# Altium footprint library Simon Says.PcbLib: 11 footprints
Each footprint in its own frame and in the unit in brackets; x right, y up, seen from the top. Pads: shape width x height; smd on the part's side, far side on the other; paste and mask are expansions set on the pad; w line width, h text height; cw(c..) or ccw(c..) is an arc to the next point about the centre after c.
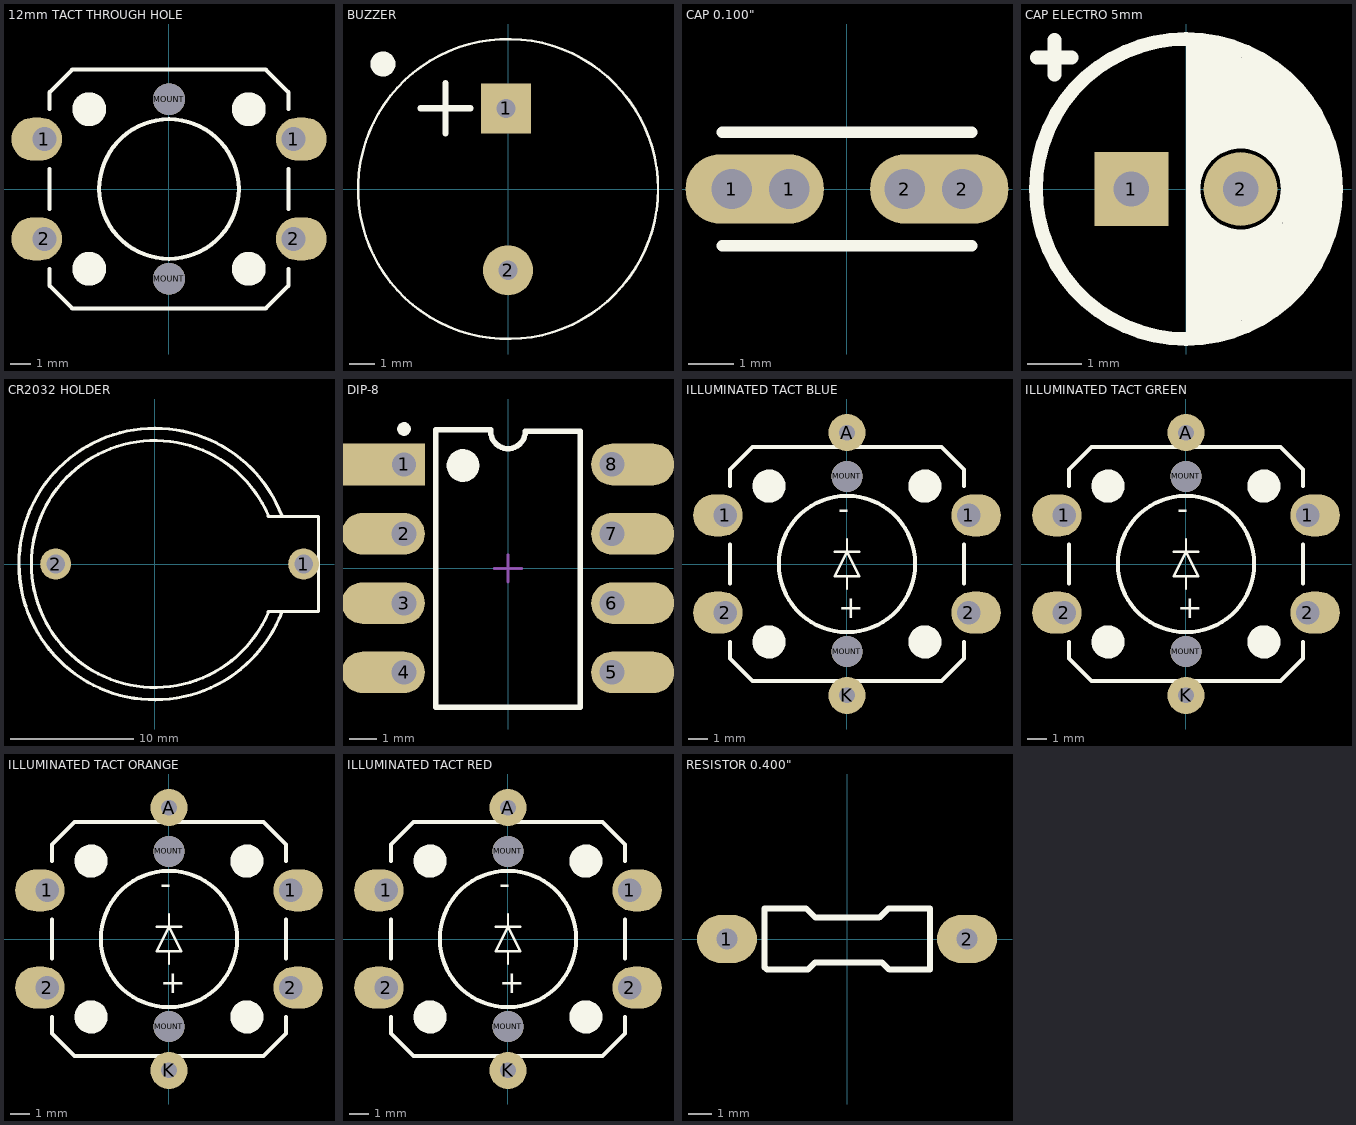
[diagram p0: the footprints below, top view; thin cyan lines are the x and y axes]

## 12mm TACT THROUGH HOLE [mil] "12mm TACT THROUGH HOLE"
pads (6):
  oval 100x85 hole 47.24 copper offset -15,0: 1(-246.06,98.43) 2(-246.06,-98.43)
  oval 100x85 hole 47.24 copper offset 15,0: 1(246.06,98.43) 2(246.06,-98.43)
  round 62.99 hole 62.99: MOUNT(0,-177.17) MOUNT(0,177.17)
Top Overlay:
  circle w35.43: c157.48,-157.48 r15.75
  circle w35.43: c157.48,157.48 r15.75
  circle w8: c0,0 r137.8
  circle w35.43: c-157.48,157.48 r15.75
  circle w35.43: c-157.48,-157.48 r15.75
  lines w8: -236.22,-157.48 -236.22,-190.94 -190.94,-236.22 190.94,-236.22 236.22,-190.94 236.22,-157.48 ; -236.22,-39.37 -236.22,39.37 ; -236.22,157.48 -236.22,190.94 -190.94,236.22 190.94,236.22 236.22,190.94 236.22,157.48 ; 236.22,-39.37 236.22,39.37
3D body "User Library-tact switch 12x12x8mm.step": height 334.65, standoff -137.8, extent -273.02,-236.21 273.03,236.23

## BUZZER [mm]
pads (2):
  rect 2x2 hole 0.762: 1(-0.079,3.223)
  round 2 hole 0.762: 2(0,-3.25)
Top Overlay:
  circle w0.5: c-5,5 r0.25
  circle w0.1: c0,0 r6
  lines w0.254: -3.5,3.223 -1.5,3.223 ; -2.5,2.223 -2.5,4.223
3D body "buzzer.stp": height 8.51, standoff -5.49, extent -6,-6 6,6

## CAP 0.100" [mil]
pads (4):
  round 60 hole 35: 1(-99.99,0) 2(100.01,0)
  oval 120x60 hole 35 copper offset -30,0: 1(-49.99,0)
  oval 120x60 hole 35 copper offset 30,0: 2(50.01,0)
Top Overlay:
  lines w10: -108.28,-49.21 108.28,-49.21 ; -108.28,49.22 108.28,49.22
3D body "CAP_DISC_4x3_YL.stp": height 175.83, standoff -118.11, extent -107.27,-59.06 107.27,59.06

## CAP ELECTRO 5mm [mm]
pads (2):
  rect 1.35x1.35 hole 0.65: 1(-1,0)
  round 1.35 hole 0.65: 2(1,0)
Top Overlay:
  circle w0.254: c0,0 r2.75
  circle w0.254: c1,0 r0.866
  rectangle: 0.127,0.889 1.016,2.667
  rectangle: 0.127,0.635 0.381,1.016
  rectangle: 0.381,0.762 0.635,1.016
  rectangle: 1.905,-0.254 2.667,0.635
  rectangle: 1.778,0.254 2.54,1.143
  rectangle: 0.762,0.889 1.397,2.413
  rectangle: 1.27,0.762 1.651,2.286
  rectangle: 1.524,0.635 1.905,2.032
  rectangle: 1.651,0.508 1.778,0.762
  rectangle: 1.651,1.016 2.286,1.651
  rectangle: 1.651,1.524 2.032,1.905
  rectangle: 2.286,1.016 2.413,1.397
  rectangle: 1.651,-1.651 2.286,-1.016
  rectangle: 1.524,-2.032 1.905,-0.635
  rectangle: 1.27,-2.286 1.651,-0.762
  rectangle: 0.762,-2.413 1.397,-0.889
  rectangle: 1.778,-1.143 2.54,-0.254
  rectangle: 0.381,-1.016 0.635,-0.762
  rectangle: 0.127,-1.016 0.381,-0.635
  rectangle: 0.127,-2.667 1.016,-0.889
  rectangle: 1.651,-1.905 2.032,-1.651
  rectangle: 2.032,-1.27 2.413,-1.016
  rectangle: 2.54,-0.762 2.667,-0.254
  lines w0.254: -2.73,2.413 -2.095,2.413 ; -2.413,2.095 -2.413,2.73 ; 0.127,-2.667 0.127,2.667
3D body "CAP_RAD_D5x11_POL_BK.stp": height 12.5, standoff -2.5, extent -2.75,-2.75 2.75,2.75

## CR2032 HOLDER [mm]
pads (2):
  round 2.5 hole 1.5: 1(12.05,0) 2(-8.035,0)
Top Overlay:
  lines w0.254: 9.191,-3.939 cw(c0,0) 9.191,3.939 ; 9.191,-3.85 13.25,-3.85 13.25,3.85 9.191,3.85 ; 10.286,3.898 ccw(c0,0) 10.3,-3.862
3D body "CR2032.STEP": height 8.5, standoff -4.3, extent -11.15,-11.15 13.15,11.15

## DIP-8 [mil] "DIP, 14-Pin, Row Spacing 7.62 mm, Pitch 2.54 mm"
height 200
pads (8):
  rect 120x60 hole 35 copper offset -30,0: 1(-150,150)
  rrect100% 120x60 hole 35.43 copper offset -30,0: 2(-150,50) 3(-150,-50) 4(-150,-150)
  rrect100% 120x60 hole 35.43 copper offset 30,0: 5(150,-150) 6(150,-50) 7(150,50) 8(150,150)
Top Overlay:
  circle w23.62: c-64.96,148.43 r11.81
  circle w9.84: c-150,201.18 r4.92
  lines w7.87: -25,197.8 ccw(c0,197.8) 25,197.8 104.33,197.8 ; -25,200 -104.33,200 -104.33,-200 104.33,-200 104.33,195
Mechanical 15:
  lines w3.94: -19.68,0 19.68,0 ; 0,-19.68 0,19.68
3D body "DIP8.STEP": height 151.57, standoff -78.74, extent -154.93,-181.1 154.91,181.11

## ILLUMINATED TACT BLUE [mil]
pads (8):
  oval 100x85 hole 47.24 copper offset -15,0: 1(-246.06,98.43) 2(-246.06,-98.43)
  oval 100x85 hole 47.24 copper offset 15,0: 1(246.06,98.43) 2(246.06,-98.43)
  round 75 hole 31.5: A(0,265.75) K(0,-265.75)
  round 62.99 hole 62.99: MOUNT(0,-177.17) MOUNT(0,177.17)
Top Overlay:
  circle w35.43: c-157.48,-157.48 r15.75
  circle w35.43: c-157.48,157.48 r15.75
  circle w8: c0,0 r137.8
  circle w35.43: c157.48,157.48 r15.75
  circle w35.43: c157.48,-157.48 r15.75
  lines w5: -25,25 0,25 ; 0,-50 0,-25 ; 0,50 0,25 ; 25,25 0,25 ; 0,-25 25,-25 0,25 ; 0,-25 -25,-25 0,25
  lines w8: -236.22,-157.48 -236.22,-190.94 -190.94,-236.22 190.94,-236.22 236.22,-190.94 236.22,-157.48 ; -236.22,-39.37 -236.22,39.37 ; -236.22,157.48 -236.22,190.94 -190.94,236.22 190.94,236.22 236.22,190.94 236.22,157.48 ; 236.22,-39.37 236.22,39.37
  text "-" at -17.5,75 h77.5
  text "+" at -17.5,-125 h77.5
3D body "Tactal Switch - THRU(12mmx12mm - Illuminated - Blue.stp": height 289.73, standoff -120, extent -264.11,-298.5 264.1,298.5

## ILLUMINATED TACT GREEN [mil]
pads (8):
  oval 100x85 hole 47.24 copper offset -15,0: 1(-246.06,98.43) 2(-246.06,-98.43)
  oval 100x85 hole 47.24 copper offset 15,0: 1(246.06,98.43) 2(246.06,-98.43)
  round 75 hole 31.5: A(0,265.75) K(0,-265.75)
  round 62.99 hole 62.99: MOUNT(0,-177.17) MOUNT(0,177.17)
Top Overlay:
  circle w35.43: c157.48,-157.48 r15.75
  circle w35.43: c157.48,157.48 r15.75
  circle w8: c0,0 r137.8
  circle w35.43: c-157.48,157.48 r15.75
  circle w35.43: c-157.48,-157.48 r15.75
  lines w5: -25,25 0,25 ; 0,-50 0,-25 ; 0,50 0,25 ; 25,25 0,25 ; 0,-25 -25,-25 0,25 ; 0,-25 25,-25 0,25
  lines w8: -236.22,-157.48 -236.22,-190.94 -190.94,-236.22 190.94,-236.22 236.22,-190.94 236.22,-157.48 ; -236.22,-39.37 -236.22,39.37 ; -236.22,157.48 -236.22,190.94 -190.94,236.22 190.94,236.22 236.22,190.94 236.22,157.48 ; 236.22,-39.37 236.22,39.37
  text "+" at -17.5,-125 h77.5
  text "-" at -17.5,75 h77.5
3D body "Tactal Switch - THRU(12mmx12mm - Illuminated - Green.stp": height 289.73, standoff -120, extent -264.1,-298.5 264.11,298.5

## ILLUMINATED TACT ORANGE [mil]
pads (8):
  oval 100x85 hole 47.24 copper offset -15,0: 1(-246.06,98.43) 2(-246.06,-98.43)
  oval 100x85 hole 47.24 copper offset 15,0: 1(246.06,98.43) 2(246.06,-98.43)
  round 75 hole 31.5: A(0,265.75) K(0,-265.75)
  round 62.99 hole 62.99: MOUNT(0,-177.17) MOUNT(0,177.17)
Top Overlay:
  circle w35.43: c-157.48,-157.48 r15.75
  circle w35.43: c-157.48,157.48 r15.75
  circle w8: c0,0 r137.8
  circle w35.43: c157.48,157.48 r15.75
  circle w35.43: c157.48,-157.48 r15.75
  lines w5: -25,25 0,25 ; 0,-50 0,-25 ; 0,50 0,25 ; 25,25 0,25 ; 0,-25 25,-25 0,25 ; 0,-25 -25,-25 0,25
  lines w8: -236.22,-157.48 -236.22,-190.94 -190.94,-236.22 190.94,-236.22 236.22,-190.94 236.22,-157.48 ; -236.22,-39.37 -236.22,39.37 ; -236.22,157.48 -236.22,190.94 -190.94,236.22 190.94,236.22 236.22,190.94 236.22,157.48 ; 236.22,-39.37 236.22,39.37
  text "-" at -17.5,75 h77.5
  text "+" at -17.5,-125 h77.5
3D body "Tactal Switch - THRU(12mmx12mm - Illuminated - Orange.stp": height 289.73, standoff -120, extent -264.11,-298.5 264.1,298.5

## ILLUMINATED TACT RED [mil]
pads (8):
  oval 100x85 hole 47.24 copper offset -15,0: 1(-246.06,98.43) 2(-246.06,-98.43)
  oval 100x85 hole 47.24 copper offset 15,0: 1(246.06,98.43) 2(246.06,-98.43)
  round 75 hole 31.5: A(0,265.75) K(0,-265.75)
  round 62.99 hole 62.99: MOUNT(0,-177.17) MOUNT(0,177.17)
Top Overlay:
  circle w35.43: c157.48,-157.48 r15.75
  circle w35.43: c157.48,157.48 r15.75
  circle w8: c0,0 r137.8
  circle w35.43: c-157.48,157.48 r15.75
  circle w35.43: c-157.48,-157.48 r15.75
  lines w5: -25,25 0,25 ; 0,-50 0,-25 ; 0,50 0,25 ; 25,25 0,25 ; 0,-25 -25,-25 0,25 ; 0,-25 25,-25 0,25
  lines w8: -236.22,-157.48 -236.22,-190.94 -190.94,-236.22 190.94,-236.22 236.22,-190.94 236.22,-157.48 ; -236.22,-39.37 -236.22,39.37 ; -236.22,157.48 -236.22,190.94 -190.94,236.22 190.94,236.22 236.22,190.94 236.22,157.48 ; 236.22,-39.37 236.22,39.37
  text "+" at -17.5,-125 h77.5
  text "-" at -17.5,75 h77.5
3D body "Tactal Switch - THRU(12mmx12mm - Illuminated - Red.stp": height 289.73, standoff -120, extent -264.11,-298.5 264.1,298.5

## RESISTOR 0.400" [mil]
pads (2):
  oval 100x80 hole 35: 1(-200,0) 2(200,0)
Top Overlay:
  lines w10: -137.2,-47.24 -137.2,0 -137.2,51.18 -68.31,51.18 -52.56,35.43 53.74,35.43 69.49,51.18 138.39,51.18 138.39,-51.18 70.47,-51.18 58.66,-39.37 -53.54,-39.37 -65.35,-51.18 -133.27,-51.18 -137.2,-47.24
3D body "RES-0.25W-H-CF.stp": height 105.9, standoff -98.43, extent -210.83,-51.08 210.74,51.08